# EAGLE library part LIS3DH (library IMU)
MEMS Accelerometer (LGA-16)
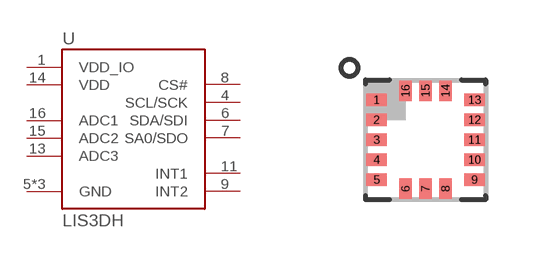
[diagram p1: symbol with the pads of LGA16_3X3; footprint LGA16_3X3]

Designator prefix U

## LIS3DH (MF: ST Microelectronics; MOUNT: Leadless; MPN: LIS3DH; REVIEWED: NO; TESTED: NO)  [LGA16_3X3]
1  VDD_IO
4  SCL/SCK
5  GND
6  SDA/SDI
7  SA0/SDO
8  CS#
9  INT2
10  GND
11  INT1
12  GND
13  ADC3
14  VDD
15  ADC2
16  ADC1

## Footprint LGA16_3X3 (pad centres in mm)
LGA-16 As found in LIS3DH/L3GD20H datasheet.
smd 0.51 x 0.31: 1 -1.225,1; 2 -1.225,0.5; 3 -1.225,0; 4 -1.225,-0.5; 5 -1.225,-1; 9 1.225,-1; 10 1.225,-0.5; 11 1.225,0; 12 1.225,0.5; 13 1.225,1
smd 0.31 x 0.51: 6 -0.5,-1.225; 7 0,-1.225; 8 0.5,-1.225; 14 0.5,1.225; 15 0,1.225; 16 -0.5,1.225